# Altium schematic symbol library tyco-power.SchLib: 1 symbol
Pins are listed as number, name and electrical type; pins without a type are passive.

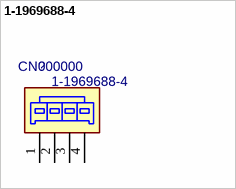
[diagram p0: symbol 1-1969688-4]

## 1-1969688-4
designator CN?, comment 000000  value 1-1969688-4
4pos, 6.0mm Wire to Board Connector, Header; PN: 000000; Package: PTH; ExtraInfo: *
footprint 1-1969688-4 (4pos, 6.0mm Wire to Board Connector, Header,  Vertical)
pins: 1, 2, 3, 4